# EAGLE library part 74FCT244A (library a3640_edu_v0.1)
74FCT244A PARA A3640
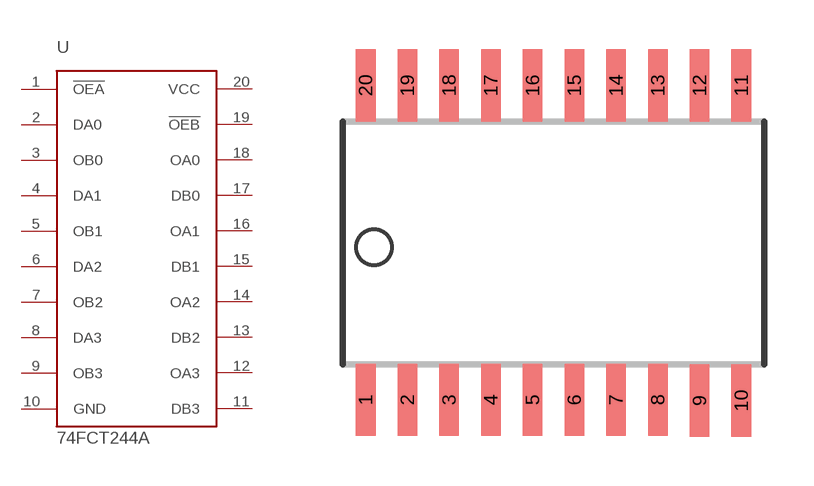
[diagram p7: symbol with the pads of 74FCT244A; footprint 74FCT244A]

Designator prefix -

## 74FCT244A  [74FCT244A]
1  !OEA
2  DA0
3  OB0
4  DA1
5  OB1
6  DA2
7  OB2
8  DA3
9  OB3
10  GND
11  DB3
12  OA3
13  DB2
14  OA2
15  DB1
16  OA1
17  DB0
18  OA0
19  !OEB
20  VCC

## Footprint 74FCT244A (pad centres in mm)
smd 0.6 x 2.2: 1 -5.715,-4.775; 2 -4.445,-4.775; 3 -3.175,-4.775; 4 -1.905,-4.775; 5 -0.635,-4.775; 6 0.635,-4.775; 7 1.905,-4.775; 8 3.175,-4.775; 9 4.445,-4.8; 10 5.715,-4.8; 11 5.715,4.8; 12 4.445,4.8; 13 3.175,4.8; 14 1.905,4.8; 15 0.635,4.8; 16 -0.635,4.8; 17 -1.905,4.8; 18 -3.175,4.8; 19 -4.445,4.8; 20 -5.715,4.8